# Altium footprint library LQFN.PcbLib: 10 footprints
Each footprint in its own frame and in the unit in brackets; x right, y up, seen from the top. Pads: shape width x height; smd on the part's side, far side on the other; paste and mask are expansions set on the pad; w line width, h text height; cw(c..) or ccw(c..) is an arc to the next point about the centre after c.
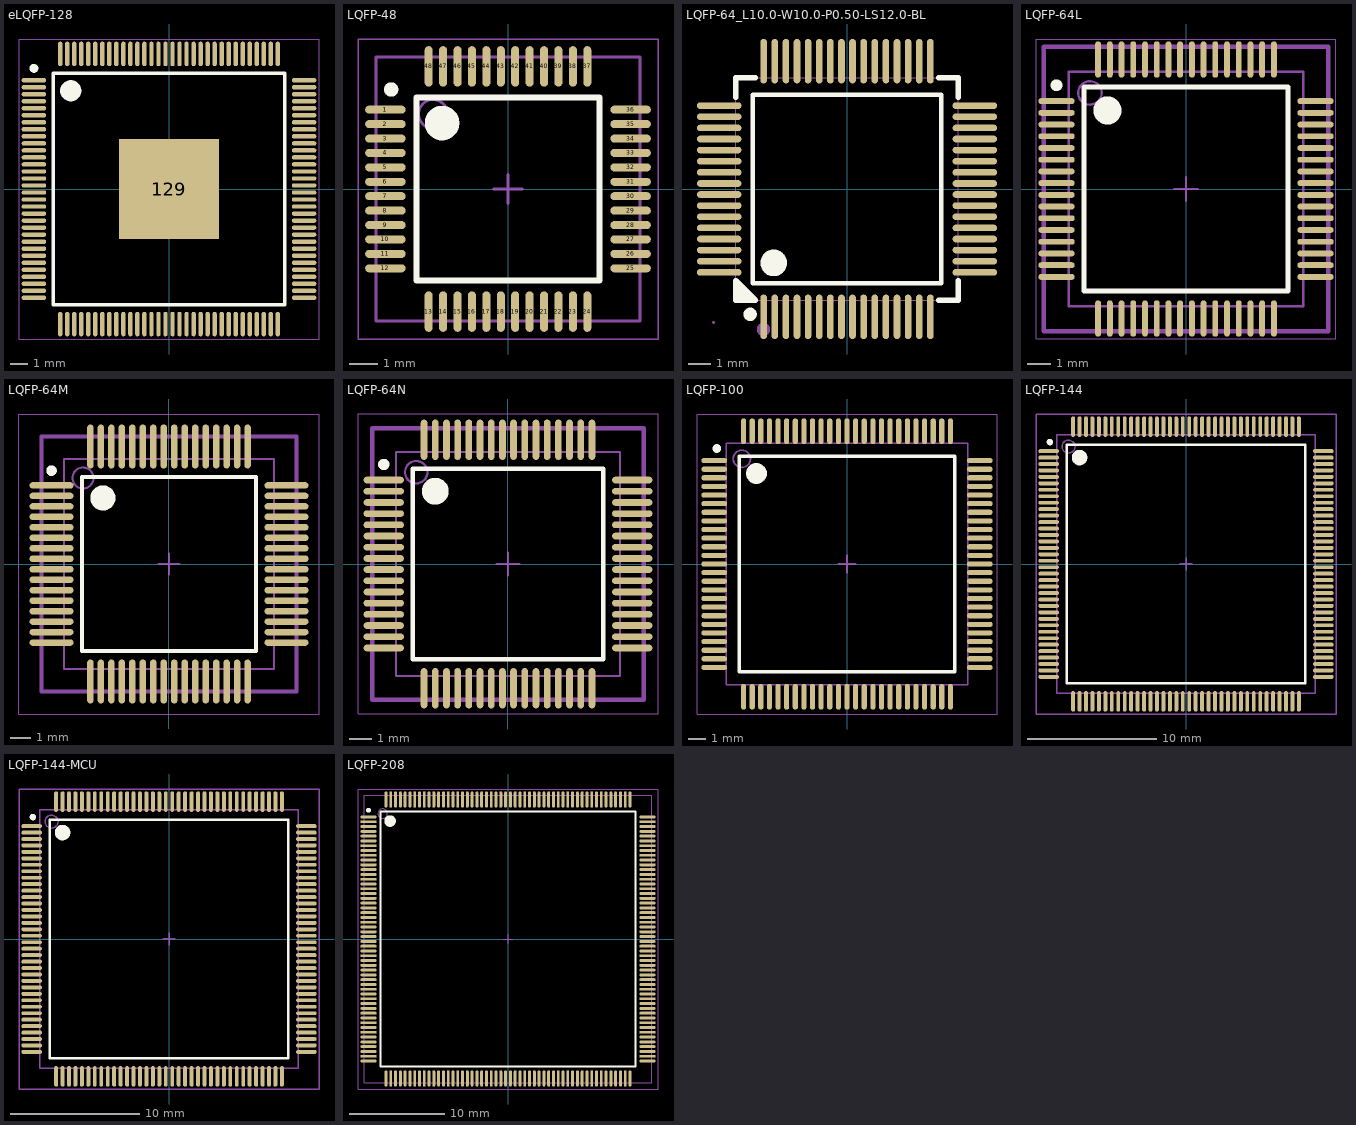
[diagram p0: the footprints below, top view; thin cyan lines are the x and y axes]

## eLQFP-128 [mm]
height 1.6
pads (129):
  oval 1.4x0.25 smd: 1(-7.7,6.2) 2(-7.7,5.8) 3(-7.7,5.4) 4(-7.7,5) 5(-7.7,4.6) 6(-7.7,4.2) 7(-7.7,3.8) 8(-7.7,3.4) 9(-7.7,3) 10(-7.7,2.6) 11(-7.7,2.2) 12(-7.7,1.8) 13(-7.7,1.4) 14(-7.7,1) 15(-7.7,0.6) 16(-7.7,0.2) 17(-7.7,-0.2) 18(-7.7,-0.6) 19(-7.7,-1) 20(-7.7,-1.4) 21(-7.7,-1.8) 22(-7.7,-2.2) 23(-7.7,-2.6) 24(-7.7,-3) 25(-7.7,-3.4) 26(-7.7,-3.8) 27(-7.7,-4.2) 28(-7.7,-4.6) 29(-7.7,-5) 30(-7.7,-5.4) 31(-7.7,-5.8) 32(-7.7,-6.2) 65(7.7,-6.2) 66(7.7,-5.8) 67(7.7,-5.4) 68(7.7,-5) 69(7.7,-4.6) 70(7.7,-4.2) 71(7.7,-3.8) 72(7.7,-3.4) 73(7.7,-3) 74(7.7,-2.6) 75(7.7,-2.2) 76(7.7,-1.8) 77(7.7,-1.4) 78(7.7,-1) 79(7.7,-0.6) 80(7.7,-0.2) 81(7.7,0.2) 82(7.7,0.6) 83(7.7,1) 84(7.7,1.4) 85(7.7,1.8) 86(7.7,2.2) 87(7.7,2.6) 88(7.7,3) 89(7.7,3.4) 90(7.7,3.8) 91(7.7,4.2) 92(7.7,4.6) 93(7.7,5) 94(7.7,5.4) 95(7.7,5.8) 96(7.7,6.2)
  oval 0.25x1.4 smd: 33(-6.2,-7.7) 34(-5.8,-7.7) 35(-5.4,-7.7) 36(-5,-7.7) 37(-4.6,-7.7) 38(-4.2,-7.7) 39(-3.8,-7.7) 40(-3.4,-7.7) 41(-3,-7.7) 42(-2.6,-7.7) 43(-2.2,-7.7) 44(-1.8,-7.7) 45(-1.4,-7.7) 46(-1,-7.7) 47(-0.6,-7.7) 48(-0.2,-7.7) 49(0.2,-7.7) 50(0.6,-7.7) 51(1,-7.7) 52(1.4,-7.7) 53(1.8,-7.7) 54(2.2,-7.7) 55(2.6,-7.7) 56(3,-7.7) 57(3.4,-7.7) 58(3.8,-7.7) 59(4.2,-7.7) 60(4.6,-7.7) 61(5,-7.7) 62(5.4,-7.7) 63(5.8,-7.7) 64(6.2,-7.7) 97(6.2,7.7) 98(5.8,7.7) 99(5.4,7.7) 100(5,7.7) 101(4.6,7.7) 102(4.2,7.7) 103(3.8,7.7) 104(3.4,7.7) 105(3,7.7) 106(2.6,7.7) 107(2.2,7.7) 108(1.8,7.7) 109(1.4,7.7) 110(1,7.7) 111(0.6,7.7) 112(0.2,7.7) 113(-0.2,7.7) 114(-0.6,7.7) 115(-1,7.7) 116(-1.4,7.7) 117(-1.8,7.7) 118(-2.2,7.7) 119(-2.6,7.7) 120(-3,7.7) 121(-3.4,7.7) 122(-3.8,7.7) 123(-4.2,7.7) 124(-4.6,7.7) 125(-5,7.7) 126(-5.4,7.7) 127(-5.8,7.7) 128(-6.2,7.7)
  rect 5.72x5.72 smd: 129(0,0)
Top Overlay:
  circle w0.25: c-7.7,6.875 r0.125
  circle w0.6: c-5.6,5.6 r0.3
  lines w0.2: -6.6,-6.6 -6.6,6.6 6.6,6.6 6.6,-6.6 -6.6,-6.6
Mechanical 15:
  lines w0.05: -8.55,-8.55 -8.55,8.55 8.55,8.55 8.55,-8.55 -8.55,-8.55
  lines w0.1: -0.5,0 0.5,0 ; 0,-0.5 0,0.5
3D body "LQFP128.STEP": height 1.6, standoff 0, extent -8,-8 8,8

## LQFP-48 [mm] "Thin QFP, 48-Leads, Body 7x7mm, Pitch 0.5mm, IPC Medium Density"
height 1.6
pads (48):
  oval 1.4x0.279 smd: 1(-4.25,2.75) 2(-4.25,2.25) 3(-4.25,1.75) 4(-4.25,1.25) 5(-4.25,0.75) 6(-4.25,0.25) 7(-4.25,-0.25) 8(-4.25,-0.75) 9(-4.25,-1.25) 10(-4.25,-1.75) 11(-4.25,-2.25) 12(-4.25,-2.75) 25(4.25,-2.75) 26(4.25,-2.25) 27(4.25,-1.75) 28(4.25,-1.25) 29(4.25,-0.75) 30(4.25,-0.25) 31(4.25,0.25) 32(4.25,0.75) 33(4.25,1.25) 34(4.25,1.75) 35(4.25,2.25) 36(4.25,2.75)
  oval 0.279x1.4 smd: 13(-2.75,-4.25) 14(-2.25,-4.25) 15(-1.75,-4.25) 16(-1.25,-4.25) 17(-0.75,-4.25) 18(-0.25,-4.25) 19(0.25,-4.25) 20(0.75,-4.25) 21(1.25,-4.25) 22(1.75,-4.25) 23(2.25,-4.25) 24(2.75,-4.25) 37(2.75,4.25) 38(2.25,4.25) 39(1.75,4.25) 40(1.25,4.25) 41(0.75,4.25) 42(0.25,4.25) 43(-0.25,4.25) 44(-0.75,4.25) 45(-1.25,4.25) 46(-1.75,4.25) 47(-2.25,4.25) 48(-2.75,4.25)
Top Overlay:
  circle w0.6: c-2.286,2.286 r0.3
  circle w0.25: c-4.05,3.45 r0.125
  lines w0.2: -3.175,-3.175 -3.175,3.175 3.175,3.175 3.175,-3.175 -3.175,-3.175
Mechanical 13:
  circle w0.1: c-2.6,2.6 r0.5
  lines w0.1: -4.572,-4.572 -4.572,4.572 4.572,4.572 4.572,-4.572 -4.572,-4.572
Mechanical 15:
  lines w0.05: -5.2,-5.2 5.2,-5.2 5.2,5.2 -5.2,5.2 -5.2,-5.2
  lines w0.1: -0.5,0 0.5,0 ; 0,-0.5 0,0.5
3D body "LQFP48.STEP": height 1.62, standoff -0.01, extent -4.572,-4.572 4.572,4.572

## LQFP-64_L10.0-W10.0-P0.50-LS12.0-BL [mm]
pads (64):
  oval 0.3x2 smd paste+0 mask+0.051: 1(-3.75,-5.75) 2(-3.25,-5.75) 3(-2.75,-5.75) 4(-2.25,-5.75) 5(-1.75,-5.75) 6(-1.25,-5.75) 7(-0.75,-5.75) 8(-0.25,-5.75) 9(0.25,-5.75) 10(0.75,-5.75) 11(1.25,-5.75) 12(1.75,-5.75) 13(2.25,-5.75) 14(2.75,-5.75) 15(3.25,-5.75) 16(3.75,-5.75) 33(3.75,5.75) 34(3.25,5.75) 35(2.75,5.75) 36(2.25,5.75) 37(1.75,5.75) 38(1.25,5.75) 39(0.75,5.75) 40(0.25,5.75) 41(-0.25,5.75) 42(-0.75,5.75) 43(-1.25,5.75) 44(-1.75,5.75) 45(-2.25,5.75) 46(-2.75,5.75) 47(-3.25,5.75) 48(-3.75,5.75)
  oval 2x0.3 smd paste+0 mask+0.051: 17(5.75,-3.75) 18(5.75,-3.25) 19(5.75,-2.75) 20(5.75,-2.25) 21(5.75,-1.75) 22(5.75,-1.25) 23(5.75,-0.75) 24(5.75,-0.25) 25(5.75,0.25) 26(5.75,0.75) 27(5.75,1.25) 28(5.75,1.75) 29(5.75,2.25) 30(5.75,2.75) 31(5.75,3.25) 32(5.75,3.75) 49(-5.75,3.75) 50(-5.75,3.25) 51(-5.75,2.75) 52(-5.75,2.25) 53(-5.75,1.75) 54(-5.75,1.25) 55(-5.75,0.75) 56(-5.75,0.25) 57(-5.75,-0.25) 58(-5.75,-0.75) 59(-5.75,-1.25) 60(-5.75,-1.75) 61(-5.75,-2.25) 62(-5.75,-2.75) 63(-5.75,-3.25) 64(-5.75,-3.75)
Top Overlay:
  region: -4.131,-5 -5,-4.131 -5,-5
  lines w0.2: -4.25,-4.25 -4.25,4.25 4.25,4.25 4.25,-4.25 -4.25,-4.25
  lines w0.254: -5,4.131 -5,5 -4.131,5 ; 4.131,-5 5,-5 5,-4.131 ; 4.131,5 5,5 5,4.131 ; -5,-4.131 -5,-4.131 ; -5,-4.131 -4.131,-5 -5,-5 -5,-4.131
  lines w0.3: -4.361,-5.49 ccw(c-4.36,-5.64) -4.359,-5.49
  lines w0.6: -3.299,-3.025 ccw(c-3.297,-3.325) -3.294,-3.025
Mechanical 6:
  circle w0.3: c-3.76,-6.32 r0.15
Mechanical 15:
  drawing of 133 lines, arcs and shapes, not listed

## LQFP-64L [mm] "Thin QFP, 64-Leads, Body 10x10mm, Pitch 0.5mm, IPC High Density"
height 1.6
pads (64):
  oval 1.55x0.25 smd: 1(-5.525,3.75) 2(-5.525,3.25) 3(-5.525,2.75) 4(-5.525,2.25) 5(-5.525,1.75) 6(-5.525,1.25) 7(-5.525,0.75) 8(-5.525,0.25) 9(-5.525,-0.25) 10(-5.525,-0.75) 11(-5.525,-1.25) 12(-5.525,-1.75) 13(-5.525,-2.25) 14(-5.525,-2.75) 15(-5.525,-3.25) 16(-5.525,-3.75) 33(5.525,-3.75) 34(5.525,-3.25) 35(5.525,-2.75) 36(5.525,-2.25) 37(5.525,-1.75) 38(5.525,-1.25) 39(5.525,-0.75) 40(5.525,-0.25) 41(5.525,0.25) 42(5.525,0.75) 43(5.525,1.25) 44(5.525,1.75) 45(5.525,2.25) 46(5.525,2.75) 47(5.525,3.25) 48(5.525,3.75)
  oval 0.25x1.55 smd: 17(-3.75,-5.525) 18(-3.25,-5.525) 19(-2.75,-5.525) 20(-2.25,-5.525) 21(-1.75,-5.525) 22(-1.25,-5.525) 23(-0.75,-5.525) 24(-0.25,-5.525) 25(0.25,-5.525) 26(0.75,-5.525) 27(1.25,-5.525) 28(1.75,-5.525) 29(2.25,-5.525) 30(2.75,-5.525) 31(3.25,-5.525) 32(3.75,-5.525) 49(3.75,5.525) 50(3.25,5.525) 51(2.75,5.525) 52(2.25,5.525) 53(1.75,5.525) 54(1.25,5.525) 55(0.75,5.525) 56(0.25,5.525) 57(-0.25,5.525) 58(-0.75,5.525) 59(-1.25,5.525) 60(-1.75,5.525) 61(-2.25,5.525) 62(-2.75,5.525) 63(-3.25,5.525) 64(-3.75,5.525)
Top Overlay:
  circle w0.25: c-5.525,4.425 r0.125
  circle w0.6: c-3.35,3.35 r0.3
  lines w0.2: -4.35,-4.35 -4.35,4.35 4.35,4.35 4.35,-4.35 -4.35,-4.35
Mechanical 13:
  circle w0.1: c-4.1,4.1 r0.5
  lines w0.2: -6.072,-6.072 6.072,-6.072 6.072,6.072 -6.072,6.072 -6.072,-6.072
Mechanical 15:
  lines w0.05: -6.4,-6.4 -6.4,6.4 6.4,6.4 6.4,-6.4 -6.4,-6.4
  lines w0.1: -0.5,0 0.5,0 ; 0,-0.5 0,0.5 ; -5,-5 -5,5 5,5 5,-5 -5,-5
3D body "LQFP64.STEP": height 1.62, standoff -0.01, extent -6.072,-6.072 6.072,6.072

## LQFP-64M [mm] "Thin QFP, 64-Leads, Body 10x10mm, Pitch 0.5mm, IPC Low Density"
height 1.6
pads (64):
  oval 2.1x0.3 smd: 1(-5.6,3.75) 2(-5.6,3.25) 3(-5.6,2.75) 4(-5.6,2.25) 5(-5.6,1.75) 6(-5.6,1.25) 7(-5.6,0.75) 8(-5.6,0.25) 9(-5.6,-0.25) 10(-5.6,-0.75) 11(-5.6,-1.25) 12(-5.6,-1.75) 13(-5.6,-2.25) 14(-5.6,-2.75) 15(-5.6,-3.25) 16(-5.6,-3.75) 33(5.6,-3.75) 34(5.6,-3.25) 35(5.6,-2.75) 36(5.6,-2.25) 37(5.6,-1.75) 38(5.6,-1.25) 39(5.6,-0.75) 40(5.6,-0.25) 41(5.6,0.25) 42(5.6,0.75) 43(5.6,1.25) 44(5.6,1.75) 45(5.6,2.25) 46(5.6,2.75) 47(5.6,3.25) 48(5.6,3.75)
  oval 0.3x2.1 smd: 17(-3.75,-5.6) 18(-3.25,-5.6) 19(-2.75,-5.6) 20(-2.25,-5.6) 21(-1.75,-5.6) 22(-1.25,-5.6) 23(-0.75,-5.6) 24(-0.25,-5.6) 25(0.25,-5.6) 26(0.75,-5.6) 27(1.25,-5.6) 28(1.75,-5.6) 29(2.25,-5.6) 30(2.75,-5.6) 31(3.25,-5.6) 32(3.75,-5.6) 49(3.75,5.6) 50(3.25,5.6) 51(2.75,5.6) 52(2.25,5.6) 53(1.75,5.6) 54(1.25,5.6) 55(0.75,5.6) 56(0.25,5.6) 57(-0.25,5.6) 58(-0.75,5.6) 59(-1.25,5.6) 60(-1.75,5.6) 61(-2.25,5.6) 62(-2.75,5.6) 63(-3.25,5.6) 64(-3.75,5.6)
Top Overlay:
  circle w0.6: c-3.15,3.15 r0.3
  circle w0.25: c-5.6,4.45 r0.125
  lines w0.2: -4.15,-4.15 4.15,-4.15 4.15,4.15 -4.15,4.15 -4.15,-4.15
Mechanical 13:
  circle w0.1: c-4.1,4.1 r0.5
  lines w0.2: -6.072,-6.072 -6.072,6.072 6.072,6.072 6.072,-6.072 -6.072,-6.072
Mechanical 15:
  lines w0.05: -7.15,-7.15 7.15,-7.15 7.15,7.15 -7.15,7.15 -7.15,-7.15
  lines w0.1: -0.5,0 0.5,0 ; 0,-0.5 0,0.5 ; -5,-5 5,-5 5,5 -5,5 -5,-5
3D body "LQFP64.STEP": height 1.62, standoff -0.01, extent -6.072,-6.072 6.072,6.072

## LQFP-64N [mm] "Thin QFP, 64-Leads, Body 10x10mm, Pitch 0.5mm, IPC Medium Density"
height 1.6
pads (64):
  oval 1.8x0.3 smd: 1(-5.55,3.75) 2(-5.55,3.25) 3(-5.55,2.75) 4(-5.55,2.25) 5(-5.55,1.75) 6(-5.55,1.25) 7(-5.55,0.75) 8(-5.55,0.25) 9(-5.55,-0.25) 10(-5.55,-0.75) 11(-5.55,-1.25) 12(-5.55,-1.75) 13(-5.55,-2.25) 14(-5.55,-2.75) 15(-5.55,-3.25) 16(-5.55,-3.75) 33(5.55,-3.75) 34(5.55,-3.25) 35(5.55,-2.75) 36(5.55,-2.25) 37(5.55,-1.75) 38(5.55,-1.25) 39(5.55,-0.75) 40(5.55,-0.25) 41(5.55,0.25) 42(5.55,0.75) 43(5.55,1.25) 44(5.55,1.75) 45(5.55,2.25) 46(5.55,2.75) 47(5.55,3.25) 48(5.55,3.75)
  oval 0.3x1.8 smd: 17(-3.75,-5.55) 18(-3.25,-5.55) 19(-2.75,-5.55) 20(-2.25,-5.55) 21(-1.75,-5.55) 22(-1.25,-5.55) 23(-0.75,-5.55) 24(-0.25,-5.55) 25(0.25,-5.55) 26(0.75,-5.55) 27(1.25,-5.55) 28(1.75,-5.55) 29(2.25,-5.55) 30(2.75,-5.55) 31(3.25,-5.55) 32(3.75,-5.55) 49(3.75,5.55) 50(3.25,5.55) 51(2.75,5.55) 52(2.25,5.55) 53(1.75,5.55) 54(1.25,5.55) 55(0.75,5.55) 56(0.25,5.55) 57(-0.25,5.55) 58(-0.75,5.55) 59(-1.25,5.55) 60(-1.75,5.55) 61(-2.25,5.55) 62(-2.75,5.55) 63(-3.25,5.55) 64(-3.75,5.55)
Top Overlay:
  circle w0.25: c-5.55,4.45 r0.125
  circle w0.6: c-3.25,3.25 r0.3
  lines w0.2: -4.25,-4.25 -4.25,4.25 4.25,4.25 4.25,-4.25 -4.25,-4.25
Mechanical 13:
  circle w0.1: c-4.1,4.1 r0.5
  lines w0.2: -6.072,-6.072 -6.072,6.072 6.072,6.072 6.072,-6.072 -6.072,-6.072
Mechanical 15:
  lines w0.05: -6.7,-6.7 -6.7,6.7 6.7,6.7 6.7,-6.7 -6.7,-6.7
  lines w0.1: -0.5,0 0.5,0 ; 0,-0.5 0,0.5 ; -5,-5 -5,5 5,5 5,-5 -5,-5
3D body "LQFP64.STEP": height 1.62, standoff -0.01, extent -6.072,-6.072 6.072,6.072

## LQFP-100 [mm] "Thin QFP, 100-Leads, Body 14x14mm, Pitch 0.5mm, IPC Medium Density"
height 1.6
pads (100):
  oval 1.5x0.3 smd: 1(-7.7,6) 2(-7.7,5.5) 3(-7.7,5) 4(-7.7,4.5) 5(-7.7,4) 6(-7.7,3.5) 7(-7.7,3) 8(-7.7,2.5) 9(-7.7,2) 10(-7.7,1.5) 11(-7.7,1) 12(-7.7,0.5) 13(-7.7,0) 14(-7.7,-0.5) 15(-7.7,-1) 16(-7.7,-1.5) 17(-7.7,-2) 18(-7.7,-2.5) 19(-7.7,-3) 20(-7.7,-3.5) 21(-7.7,-4) 22(-7.7,-4.5) 23(-7.7,-5) 24(-7.7,-5.5) 25(-7.7,-6) 51(7.7,-6) 52(7.7,-5.5) 53(7.7,-5) 54(7.7,-4.5) 55(7.7,-4) 56(7.7,-3.5) 57(7.7,-3) 58(7.7,-2.5) 59(7.7,-2) 60(7.7,-1.5) 61(7.7,-1) 62(7.7,-0.5) 63(7.7,0) 64(7.7,0.5) 65(7.7,1) 66(7.7,1.5) 67(7.7,2) 68(7.7,2.5) 69(7.7,3) 70(7.7,3.5) 71(7.7,4) 72(7.7,4.5) 73(7.7,5) 74(7.7,5.5) 75(7.7,6)
  oval 0.3x1.5 smd: 26(-6,-7.7) 27(-5.5,-7.7) 28(-5,-7.7) 29(-4.5,-7.7) 30(-4,-7.7) 31(-3.5,-7.7) 32(-3,-7.7) 33(-2.5,-7.7) 34(-2,-7.7) 35(-1.5,-7.7) 36(-1,-7.7) 37(-0.5,-7.7) 38(0,-7.7) 39(0.5,-7.7) 40(1,-7.7) 41(1.5,-7.7) 42(2,-7.7) 43(2.5,-7.7) 44(3,-7.7) 45(3.5,-7.7) 46(4,-7.7) 47(4.5,-7.7) 48(5,-7.7) 49(5.5,-7.7) 50(6,-7.7) 76(6,7.7) 77(5.5,7.7) 78(5,7.7) 79(4.5,7.7) 80(4,7.7) 81(3.5,7.7) 82(3,7.7) 83(2.5,7.7) 84(2,7.7) 85(1.5,7.7) 86(1,7.7) 87(0.5,7.7) 88(0,7.7) 89(-0.5,7.7) 90(-1,7.7) 91(-1.5,7.7) 92(-2,7.7) 93(-2.5,7.7) 94(-3,7.7) 95(-3.5,7.7) 96(-4,7.7) 97(-4.5,7.7) 98(-5,7.7) 99(-5.5,7.7) 100(-6,7.7)
Top Overlay:
  circle w0.25: c-7.55,6.7 r0.125
  circle w0.6: c-5.25,5.25 r0.3
  lines w0.2: -6.25,-6.25 -6.25,6.25 6.25,6.25 6.25,-6.25 -6.25,-6.25
Mechanical 13:
  circle w0.1: c-6.1,6.1 r0.5
  lines w0.1: -7,-7 7,-7 7,7 -7,7 -7,-7
Mechanical 15:
  lines w0.05: -8.7,-8.7 -8.7,8.7 8.7,8.7 8.7,-8.7 -8.7,-8.7
  lines w0.1: -0.5,0 0.5,0 ; 0,-0.5 0,0.5
3D body "LQFP100.STEP": height 1.62, standoff -0.01, extent -8.072,-8.072 8.072,8.072

## LQFP-144 [mm] "Thin QFP, 144-Leads, Body 20x20mm, Pitch 0.5mm, IPC Medium Density"
height 1.6
pads (144):
  oval 1.6x0.3 smd: 1(-10.65,8.75) 2(-10.65,8.25) 3(-10.65,7.75) 4(-10.65,7.25) 5(-10.65,6.75) 6(-10.65,6.25) 7(-10.65,5.75) 8(-10.65,5.25) 9(-10.65,4.75) 10(-10.65,4.25) 11(-10.65,3.75) 12(-10.65,3.25) 13(-10.65,2.75) 14(-10.65,2.25) 15(-10.65,1.75) 16(-10.65,1.25) 17(-10.65,0.75) 18(-10.65,0.25) 19(-10.65,-0.25) 20(-10.65,-0.75) 21(-10.65,-1.25) 22(-10.65,-1.75) 23(-10.65,-2.25) 24(-10.65,-2.75) 25(-10.65,-3.25) 26(-10.65,-3.75) 27(-10.65,-4.25) 28(-10.65,-4.75) 29(-10.65,-5.25) 30(-10.65,-5.75) 31(-10.65,-6.25) 32(-10.65,-6.75) 33(-10.65,-7.25) 34(-10.65,-7.75) 35(-10.65,-8.25) 36(-10.65,-8.75) 73(10.65,-8.75) 74(10.65,-8.25) 75(10.65,-7.75) 76(10.65,-7.25) 77(10.65,-6.75) 78(10.65,-6.25) 79(10.65,-5.75) 80(10.65,-5.25) 81(10.65,-4.75) 82(10.65,-4.25) 83(10.65,-3.75) 84(10.65,-3.25) 85(10.65,-2.75) 86(10.65,-2.25) 87(10.65,-1.75) 88(10.65,-1.25) 89(10.65,-0.75) 90(10.65,-0.25) 91(10.65,0.25) 92(10.65,0.75) 93(10.65,1.25) 94(10.65,1.75) 95(10.65,2.25) 96(10.65,2.75) 97(10.65,3.25) 98(10.65,3.75) 99(10.65,4.25) 100(10.65,4.75) 101(10.65,5.25) 102(10.65,5.75) 103(10.65,6.25) 104(10.65,6.75) 105(10.65,7.25) 106(10.65,7.75) 107(10.65,8.25) 108(10.65,8.75)
  oval 0.3x1.6 smd: 37(-8.75,-10.65) 38(-8.25,-10.65) 39(-7.75,-10.65) 40(-7.25,-10.65) 41(-6.75,-10.65) 42(-6.25,-10.65) 43(-5.75,-10.65) 44(-5.25,-10.65) 45(-4.75,-10.65) 46(-4.25,-10.65) 47(-3.75,-10.65) 48(-3.25,-10.65) 49(-2.75,-10.65) 50(-2.25,-10.65) 51(-1.75,-10.65) 52(-1.25,-10.65) 53(-0.75,-10.65) 54(-0.25,-10.65) 55(0.25,-10.65) 56(0.75,-10.65) 57(1.25,-10.65) 58(1.75,-10.65) 59(2.25,-10.65) 60(2.75,-10.65) 61(3.25,-10.65) 62(3.75,-10.65) 63(4.25,-10.65) 64(4.75,-10.65) 65(5.25,-10.65) 66(5.75,-10.65) 67(6.25,-10.65) 68(6.75,-10.65) 69(7.25,-10.65) 70(7.75,-10.65) 71(8.25,-10.65) 72(8.75,-10.65) 109(8.75,10.65) 110(8.25,10.65) 111(7.75,10.65) 112(7.25,10.65) 113(6.75,10.65) 114(6.25,10.65) 115(5.75,10.65) 116(5.25,10.65) 117(4.75,10.65) 118(4.25,10.65) 119(3.75,10.65) 120(3.25,10.65) 121(2.75,10.65) 122(2.25,10.65) 123(1.75,10.65) 124(1.25,10.65) 125(0.75,10.65) 126(0.25,10.65) 127(-0.25,10.65) 128(-0.75,10.65) 129(-1.25,10.65) 130(-1.75,10.65) 131(-2.25,10.65) 132(-2.75,10.65) 133(-3.25,10.65) 134(-3.75,10.65) 135(-4.25,10.65) 136(-4.75,10.65) 137(-5.25,10.65) 138(-5.75,10.65) 139(-6.25,10.65) 140(-6.75,10.65) 141(-7.25,10.65) 142(-7.75,10.65) 143(-8.25,10.65) 144(-8.75,10.65)
Top Overlay:
  circle w0.25: c-10.55,9.45 r0.125
  circle w0.6: c-8.25,8.25 r0.3
  lines w0.2: -9.25,-9.25 -9.25,9.25 9.25,9.25 9.25,-9.25 -9.25,-9.25
Mechanical 13:
  circle w0.1: c-9.1,9.1 r0.5
  lines w0.1: -10,-10 -10,10 10,10 10,-10 -10,-10
Mechanical 15:
  lines w0.1: -0.5,0 0.5,0 ; 0,-0.5 0,0.5 ; -11.625,-11.625 -11.625,11.625 11.625,11.625 11.625,-11.625 -11.625,-11.625
3D body "LQFP144.STEP": height 1.86, standoff -0.03, extent -11.1,-11.102 11.102,11.1

## LQFP-144-MCU [mm] "Thin QFP, 144-Leads, Body 20x20mm, Pitch 0.5mm, IPC Medium Density"
height 1.6
pads (144):
  oval 1.6x0.3 smd: 1(-10.65,8.75) 2(-10.65,8.25) 3(-10.65,7.75) 4(-10.65,7.25) 5(-10.65,6.75) 6(-10.65,6.25) 7(-10.65,5.75) 8(-10.65,5.25) 9(-10.65,4.75) 10(-10.65,4.25) 11(-10.65,3.75) 12(-10.65,3.25) 13(-10.65,2.75) 14(-10.65,2.25) 15(-10.65,1.75) 16(-10.65,1.25) 17(-10.65,0.75) 18(-10.65,0.25) 19(-10.65,-0.25) 20(-10.65,-0.75) 21(-10.65,-1.25) 22(-10.65,-1.75) 23(-10.65,-2.25) 24(-10.65,-2.75) 25(-10.65,-3.25) 26(-10.65,-3.75) 27(-10.65,-4.25) 28(-10.65,-4.75) 29(-10.65,-5.25) 30(-10.65,-5.75) 31(-10.65,-6.25) 32(-10.65,-6.75) 33(-10.65,-7.25) 34(-10.65,-7.75) 35(-10.65,-8.25) 36(-10.65,-8.75) 73(10.65,-8.75) 74(10.65,-8.25) 75(10.65,-7.75) 76(10.65,-7.25) 77(10.65,-6.75) 78(10.65,-6.25) 79(10.65,-5.75) 80(10.65,-5.25) 81(10.65,-4.75) 82(10.65,-4.25) 83(10.65,-3.75) 84(10.65,-3.25) 85(10.65,-2.75) 86(10.65,-2.25) 87(10.65,-1.75) 88(10.65,-1.25) 89(10.65,-0.75) 90(10.65,-0.25) 91(10.65,0.25) 92(10.65,0.75) 93(10.65,1.25) 94(10.65,1.75) 95(10.65,2.25) 96(10.65,2.75) 97(10.65,3.25) 98(10.65,3.75) 99(10.65,4.25) 100(10.65,4.75) 101(10.65,5.25) 102(10.65,5.75) 103(10.65,6.25) 104(10.65,6.75) 105(10.65,7.25) 106(10.65,7.75) 107(10.65,8.25) 108(10.65,8.75)
  oval 0.3x1.6 smd: 37(-8.75,-10.65) 38(-8.25,-10.65) 39(-7.75,-10.65) 40(-7.25,-10.65) 41(-6.75,-10.65) 42(-6.25,-10.65) 43(-5.75,-10.65) 44(-5.25,-10.65) 45(-4.75,-10.65) 46(-4.25,-10.65) 47(-3.75,-10.65) 48(-3.25,-10.65) 49(-2.75,-10.65) 50(-2.25,-10.65) 51(-1.75,-10.65) 52(-1.25,-10.65) 53(-0.75,-10.65) 54(-0.25,-10.65) 55(0.25,-10.65) 56(0.75,-10.65) 57(1.25,-10.65) 58(1.75,-10.65) 59(2.25,-10.65) 60(2.75,-10.65) 61(3.25,-10.65) 62(3.75,-10.65) 63(4.25,-10.65) 64(4.75,-10.65) 65(5.25,-10.65) 66(5.75,-10.65) 67(6.25,-10.65) 68(6.75,-10.65) 69(7.25,-10.65) 70(7.75,-10.65) 71(8.25,-10.65) 72(8.75,-10.65) 109(8.75,10.65) 110(8.25,10.65) 111(7.75,10.65) 112(7.25,10.65) 113(6.75,10.65) 114(6.25,10.65) 115(5.75,10.65) 116(5.25,10.65) 117(4.75,10.65) 118(4.25,10.65) 119(3.75,10.65) 120(3.25,10.65) 121(2.75,10.65) 122(2.25,10.65) 123(1.75,10.65) 124(1.25,10.65) 125(0.75,10.65) 126(0.25,10.65) 127(-0.25,10.65) 128(-0.75,10.65) 129(-1.25,10.65) 130(-1.75,10.65) 131(-2.25,10.65) 132(-2.75,10.65) 133(-3.25,10.65) 134(-3.75,10.65) 135(-4.25,10.65) 136(-4.75,10.65) 137(-5.25,10.65) 138(-5.75,10.65) 139(-6.25,10.65) 140(-6.75,10.65) 141(-7.25,10.65) 142(-7.75,10.65) 143(-8.25,10.65) 144(-8.75,10.65)
Top Overlay:
  circle w0.25: c-10.55,9.45 r0.125
  circle w0.6: c-8.25,8.25 r0.3
  lines w0.2: -9.25,-9.25 -9.25,9.25 9.25,9.25 9.25,-9.25 -9.25,-9.25
Mechanical 13:
  circle w0.1: c-9.1,9.1 r0.5
  lines w0.1: -10,-10 -10,10 10,10 10,-10 -10,-10
Mechanical 15:
  lines w0.1: -0.5,0 0.5,0 ; 0,-0.5 0,0.5 ; -11.625,-11.625 11.625,-11.625 11.625,11.625 -11.625,11.625 -11.625,-11.625
3D body "LQFP144-MCU.STEP": height 1.69, standoff -0.01, extent -11.002,-11.003 11.002,11

## LQFP-208 [mm] "TSQFP, 208-Leads, Body 28.00x28.00mm, Pitch 0.50mm, IPC Medium Density"
height 1.6
pads (208):
  oval 1.7x0.3 smd: 1(-14.575,12.75) 2(-14.575,12.25) 3(-14.575,11.75) 4(-14.575,11.25) 5(-14.575,10.75) 6(-14.575,10.25) 7(-14.575,9.75) 8(-14.575,9.25) 9(-14.575,8.75) 10(-14.575,8.25) 11(-14.575,7.75) 12(-14.575,7.25) 13(-14.575,6.75) 14(-14.575,6.25) 15(-14.575,5.75) 16(-14.575,5.25) 17(-14.575,4.75) 18(-14.575,4.25) 19(-14.575,3.75) 20(-14.575,3.25) 21(-14.575,2.75) 22(-14.575,2.25) 23(-14.575,1.75) 24(-14.575,1.25) 25(-14.575,0.75) 26(-14.575,0.25) 27(-14.575,-0.25) 28(-14.575,-0.75) 29(-14.575,-1.25) 30(-14.575,-1.75) 31(-14.575,-2.25) 32(-14.575,-2.75) 33(-14.575,-3.25) 34(-14.575,-3.75) 35(-14.575,-4.25) 36(-14.575,-4.75) 37(-14.575,-5.25) 38(-14.575,-5.75) 39(-14.575,-6.25) 40(-14.575,-6.75) 41(-14.575,-7.25) 42(-14.575,-7.75) 43(-14.575,-8.25) 44(-14.575,-8.75) 45(-14.575,-9.25) 46(-14.575,-9.75) 47(-14.575,-10.25) 48(-14.575,-10.75) 49(-14.575,-11.25) 50(-14.575,-11.75) 51(-14.575,-12.25) 52(-14.575,-12.75) 105(14.575,-12.75) 106(14.575,-12.25) 107(14.575,-11.75) 108(14.575,-11.25) 109(14.575,-10.75) 110(14.575,-10.25) 111(14.575,-9.75) 112(14.575,-9.25) 113(14.575,-8.75) 114(14.575,-8.25) 115(14.575,-7.75) 116(14.575,-7.25) 117(14.575,-6.75) 118(14.575,-6.25) 119(14.575,-5.75) 120(14.575,-5.25) 121(14.575,-4.75) 122(14.575,-4.25) 123(14.575,-3.75) 124(14.575,-3.25) 125(14.575,-2.75) 126(14.575,-2.25) 127(14.575,-1.75) 128(14.575,-1.25) 129(14.575,-0.75) 130(14.575,-0.25) 131(14.575,0.25) 132(14.575,0.75) 133(14.575,1.25) 134(14.575,1.75) 135(14.575,2.25) 136(14.575,2.75) 137(14.575,3.25) 138(14.575,3.75) 139(14.575,4.25) 140(14.575,4.75) 141(14.575,5.25) 142(14.575,5.75) 143(14.575,6.25) 144(14.575,6.75) 145(14.575,7.25) 146(14.575,7.75) 147(14.575,8.25) 148(14.575,8.75) 149(14.575,9.25) 150(14.575,9.75) 151(14.575,10.25) 152(14.575,10.75) 153(14.575,11.25) 154(14.575,11.75) 155(14.575,12.25) 156(14.575,12.75)
  oval 0.3x1.7 smd: 53(-12.75,-14.575) 54(-12.25,-14.575) 55(-11.75,-14.575) 56(-11.25,-14.575) 57(-10.75,-14.575) 58(-10.25,-14.575) 59(-9.75,-14.575) 60(-9.25,-14.575) 61(-8.75,-14.575) 62(-8.25,-14.575) 63(-7.75,-14.575) 64(-7.25,-14.575) 65(-6.75,-14.575) 66(-6.25,-14.575) 67(-5.75,-14.575) 68(-5.25,-14.575) 69(-4.75,-14.575) 70(-4.25,-14.575) 71(-3.75,-14.575) 72(-3.25,-14.575) 73(-2.75,-14.575) 74(-2.25,-14.575) 75(-1.75,-14.575) 76(-1.25,-14.575) 77(-0.75,-14.575) 78(-0.25,-14.575) 79(0.25,-14.575) 80(0.75,-14.575) 81(1.25,-14.575) 82(1.75,-14.575) 83(2.25,-14.575) 84(2.75,-14.575) 85(3.25,-14.575) 86(3.75,-14.575) 87(4.25,-14.575) 88(4.75,-14.575) 89(5.25,-14.575) 90(5.75,-14.575) 91(6.25,-14.575) 92(6.75,-14.575) 93(7.25,-14.575) 94(7.75,-14.575) 95(8.25,-14.575) 96(8.75,-14.575) 97(9.25,-14.575) 98(9.75,-14.575) 99(10.25,-14.575) 100(10.75,-14.575) 101(11.25,-14.575) 102(11.75,-14.575) 103(12.25,-14.575) 104(12.75,-14.575) 157(12.75,14.575) 158(12.25,14.575) 159(11.75,14.575) 160(11.25,14.575) 161(10.75,14.575) 162(10.25,14.575) 163(9.75,14.575) 164(9.25,14.575) 165(8.75,14.575) 166(8.25,14.575) 167(7.75,14.575) 168(7.25,14.575) 169(6.75,14.575) 170(6.25,14.575) 171(5.75,14.575) 172(5.25,14.575) 173(4.75,14.575) 174(4.25,14.575) 175(3.75,14.575) 176(3.25,14.575) 177(2.75,14.575) 178(2.25,14.575) 179(1.75,14.575) 180(1.25,14.575) 181(0.75,14.575) 182(0.25,14.575) 183(-0.25,14.575) 184(-0.75,14.575) 185(-1.25,14.575) 186(-1.75,14.575) 187(-2.25,14.575) 188(-2.75,14.575) 189(-3.25,14.575) 190(-3.75,14.575) 191(-4.25,14.575) 192(-4.75,14.575) 193(-5.25,14.575) 194(-5.75,14.575) 195(-6.25,14.575) 196(-6.75,14.575) 197(-7.25,14.575) 198(-7.75,14.575) 199(-8.25,14.575) 200(-8.75,14.575) 201(-9.25,14.575) 202(-9.75,14.575) 203(-10.25,14.575) 204(-10.75,14.575) 205(-11.25,14.575) 206(-11.75,14.575) 207(-12.25,14.575) 208(-12.75,14.575)
Top Overlay:
  circle w0.25: c-14.575,13.45 r0.125
  circle w0.6: c-12.325,12.325 r0.3
  lines w0.2: -13.325,-13.325 -13.325,13.325 13.325,13.325 13.325,-13.325 -13.325,-13.325
Mechanical 13:
  circle w0.1: c-13.1,13.1 r0.5
  lines w0.1: -15.004,-15.004 15.004,-15.004 15.004,15.004 -15.004,15.004 -15.004,-15.004
Mechanical 15:
  lines w0.05: -15.675,-15.675 -15.675,15.675 15.675,15.675 15.675,-15.675 -15.675,-15.675
  lines w0.1: -0.5,0 0.5,0 ; 0,-0.5 0,0.5
3D body "LQFP208.STEP": height 1.5, standoff 0, extent -15.004,-15.004 15.004,15.004